# Altium schematic symbol library Induct-filter.SchLib: 46 symbols
Pins are listed as number, name and electrical type; pins without a type are passive.

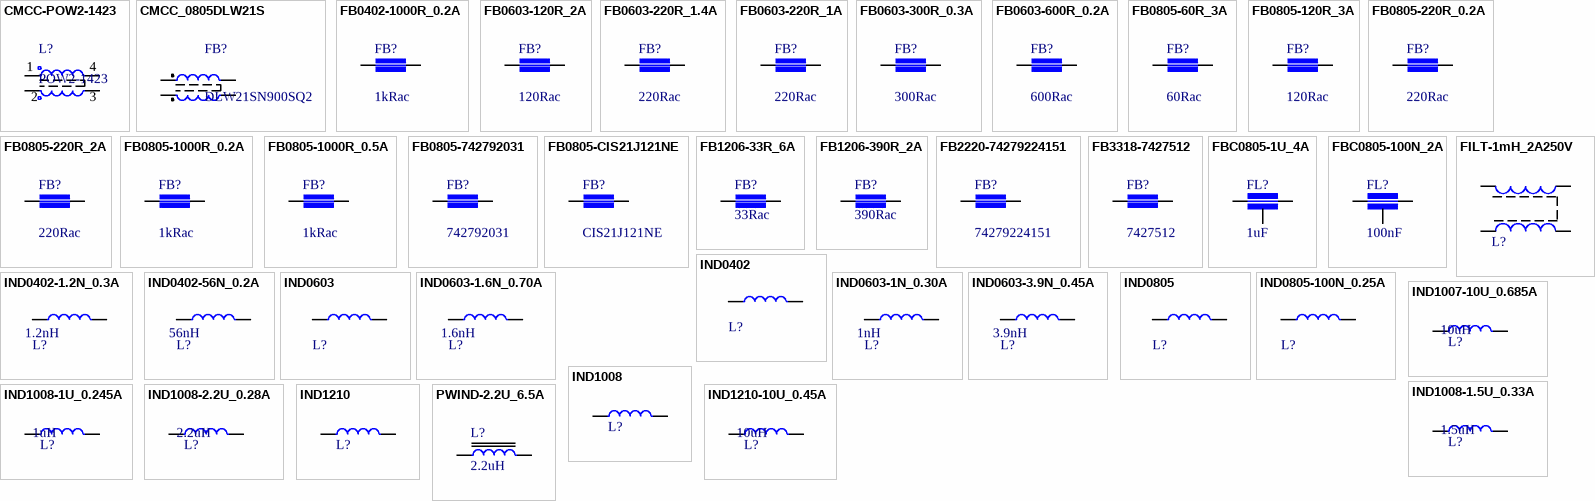
[diagram p0: symbols CMCC-POW2-1423 to PWIND-2.2U_6.5A]

## CMCC-POW2-1423
designator L?, comment POW2-1423
Dual-Winding Shielded Power Inductors D18L23,5H11,5; Manufacturer: Wurth Elektronik; Manufacturer No: 744851470; Tech: SMDR; Package: CMC WE-DCT; Supplier 1: Newark; Supplier Part Number 1: 46T8827; Supplier 2: Digi-Key; Supplier Part Number 2: 732-3022-6-ND
footprint INDPD_WE-DCT
pins: 1, 2, 3, 4

## CMCC_0805DLW21S
designator FB?, comment DLW21SN900SQ2
Chip Common Mode Choke 0805 330mA 90R; Manufacturer: Murata; Tech: SMDR; Manufacturer No: DLW21SN900SQ2; Package: Chip Coil 0805; Supplier 1: Digi-Key; Supplier Part Number 1: 490-5137-6-ND; Supplier 2: Mouser; Supplier Part Number 2: 81-DLW21SN900SQ2L; Supplier 3: Newark; Supplier Part Number 3: 74M0672
signal-integrity model Model Name (Model Description)
footprint CCMCC0805 (Chip Common Mode Choke Coil 0805)
pins: 1, 2, 3, 4

## FB0402-1000R_0.2A
designator FB?, comment 1kRac
Feritte filter smd 0402 0.2A 1.5Rdc; Manufacturer: Wuerth; Manufacturer No: 742792796; Tech: SMDR; Package: Filter Chip 0603; Supplier 1: Newark; Supplier Part Number 1: 78R5666; Supplier 2: Mouser; Supplier Part Number 2: 710-742792796; Supplier 3: Digi-Key; Supplier Part Number 3: 732-2132-1-ND
signal-integrity model Model Name (Model Description)
footprint FB0402N1R (Chip Ferrite Bead, 2-Leads, Body 1,6x0,8mm, IPC Medium Density)
footprint FB0402N1X (Chip Ferrite Bead, 2-Leads, Body 1,6x0,8mm, IPC Medium Density)
pins: 1, 2

## FB0603-120R_2A
designator FB?, comment 120Rac
Feritte filter smd 0603 2A 50mRdc; Manufacturer: Murata; Manufacturer No: BLM18PG121SN1; Tech: SMDR; Package: Filter Chip 0603; Supplier 1: Mouser; Supplier Part Number 1: 81-BLM18PG121SN1D; Supplier 2: Newark; Supplier Part Number 2: 73M9109; Supplier 3: Digi-Key; Supplier Part Number 3: 490-1037-1-ND
signal-integrity model Model Name (Model Description)
footprint FB0603N1X (Chip Ferrite Bead, 2-Leads, Body 1,6x0,8mm, IPC Medium Density)
footprint FB0603N1R (Chip Ferrite Bead, 2-Leads, Body 1,6x0,8mm, IPC Medium Density)
pins: 1, 2

## FB0603-220R_1.4A
designator FB?, comment 220Rac
Feritte filter smd 0603 1.4A 0.1Rdc; Manufacturer: Murata; Manufacturer No: BLM18PG221SN1; Tech: SMDR; Package: Filter Chip 0603; Supplier 1: Mouser; Supplier Part Number 1: 81-BLM18PG221SN1D; Supplier 2: Digi-Key; Supplier Part Number 2: 490-5221-1-ND; Supplier 3: Newark; Supplier Part Number 3: 73M9111
signal-integrity model Model Name (Model Description)
footprint FB0603N1X (Chip Ferrite Bead, 2-Leads, Body 1,6x0,8mm, IPC Medium Density)
footprint FB0603N1R (Chip Ferrite Bead, 2-Leads, Body 1,6x0,8mm, IPC Medium Density)
pins: 1, 2

## FB0603-220R_1A
designator FB?, comment 220Rac
Feritte filter smd 0603 1A 50mRdc; Manufacturer: Wuerth Elektronik; Manufacturer No: 742792604; Tech: SMDR; Package: Filter Chip 0603; Supplier 1: Newark; Supplier Part Number 1: 08P2428; Supplier 2: Digi-Key; Supplier Part Number 2: 732-1597-1-ND; Supplier 3: Mouser; Supplier Part Number 3: 710-742792604
signal-integrity model Model Name (Model Description)
footprint FB0603N1X (Chip Ferrite Bead, 2-Leads, Body 1,6x0,8mm, IPC Medium Density)
footprint FB0603N1R (Chip Ferrite Bead, 2-Leads, Body 1,6x0,8mm, IPC Medium Density)
pins: 1, 2

## FB0603-300R_0.3A
designator FB?, comment 300Rac
Feritte filter smd 0603 0.3A; Manufacturer: Wuerth; Manufacturer No: 742792640; Tech: SMDR; Package: Filter Chip 0603; Supplier 1: Digi-Key; Supplier Part Number 1: 732-1578-1-ND; Supplier 2: Newark; Supplier Part Number 2: 78R5659; Supplier 3: Mouser; Supplier Part Number 3: 710-742792640
signal-integrity model Model Name (Model Description)
footprint FB0603-1 (Chip Ferrite Bead, 2-Leads, Body 1,6x0,8mm, IPC Medium Density)
pins: 1, 2

## FB0603-600R_0.2A
designator FB?, comment 600Rac
Feritte filter smd 0603 0.2A 1Rdc; Manufacturer: Murata; Manufacturer No: BLM18HG601SN1; Tech: SMDR; Package: Filter Chip 0603; Supplier 1: Digi-Key; Supplier Part Number 1: 490-1033-6-ND; Supplier 2: Newark; Supplier Part Number 2: 73M9104; Supplier 3: Mouser; Supplier Part Number 3: 81-BLM11HA601SG
signal-integrity model Model Name (Model Description)
footprint FB0603N1X (Chip Ferrite Bead, 2-Leads, Body 1,6x0,8mm, IPC Medium Density)
footprint FB0603N1R (Chip Ferrite Bead, 2-Leads, Body 1,6x0,8mm, IPC Medium Density)
pins: 1, 2

## FB0805-60R_3A
designator FB?, comment 60Rac
Feritte filter smd 0805 3A 25mRdc; Manufacturer: Wuerth Elektronik; Manufacturer No: 742792063; Tech: SMDR; Package: Filter Chip 0805; Supplier 1: Newark; Supplier Part Number 1: 08P2377; Supplier 2: Digi-Key; Supplier Part Number 2: 732-1612-1-ND; Supplier 3: Mouser; Supplier Part Number 3: 710-742792063
signal-integrity model Model Name (Model Description)
footprint FB0805-1 (Chip Ferrite Bead, 2-Leads, Body 2,0x1,3mm, IPC Medium Density)
pins: 1, 2

## FB0805-120R_3A
designator FB?, comment 120Rac
Feritte filter smd 0805 3A 25mRdc; Manufacturer: Murata; Manufacturer No: BLM21PG121SN1D; Tech: SMDR; Package: Filter Chip 0805; Supplier 1: Mouser; Supplier Part Number 1: 81-BLM21PG121SN1D; Supplier 2: Digi-Key; Supplier Part Number 2: 490-5986-1-ND; Supplier 3: Newark; Supplier Part Number 3: 87X8589
signal-integrity model Model Name (Model Description)
footprint FB0805-1 (Chip Ferrite Bead, 2-Leads, Body 2,0x1,3mm, IPC Medium Density)
pins: 1, 2

## FB0805-220R_0.2A
designator FB?, comment 220Rac
Feritte filter smd 0805 0.2A 35mRdc; Manufacturer: Murata; Manufacturer No: BLM21BB221SN1; Tech: SMDR; Package: Filter Chip 0805; Supplier 1: Digi-Key; Supplier Part Number 1: 490-9708-1-ND; Supplier 2: Newark; Supplier Part Number 2: 73M9140; Supplier 3: Mouser; Supplier Part Number 3: 81-BLM21B221S
signal-integrity model Model Name (Model Description)
footprint FB0805N1X (Chip Ferrite Bead, 2-Leads, Body 2,0x1,3mm, IPC Medium Density)
footprint FB0805N1R (Chip Ferrite Bead, 2-Leads, Body 2,0x1,3mm, IPC Medium Density)
pins: 1, 2

## FB0805-220R_2A
designator FB?, comment 220Rac
Feritte filter smd 0805 2A 50mRdc; Manufacturer: Murata; Manufacturer No: BLM21PG221SN1; Tech: SMDR; Package: Filter Chip 0805; Supplier 1: Digi-Key; Supplier Part Number 1: 490-1054-1-ND; Supplier 2: Newark; Supplier Part Number 2: 73M9167; Supplier 3: Mouser; Supplier Part Number 3: 81-BLM21P221SG
signal-integrity model Model Name (Model Description)
footprint FB0805N1X (Chip Ferrite Bead, 2-Leads, Body 2,0x1,3mm, IPC Medium Density)
footprint FB0805N1R (Chip Ferrite Bead, 2-Leads, Body 2,0x1,3mm, IPC Medium Density)
pins: 1, 2

## FB0805-1000R_0.2A
designator FB?, comment 1kRac
Feritte filter smd 0805 0.2A; Manufacturer: Wurth Elektronik; Manufacturer No: 74279205; Tech: SMDR; Package: Filter Chip 0805; Supplier 1: Mouser; Supplier Part Number 1: 710-74279205; Supplier 2: Digi-Key; Supplier Part Number 2: 732-1606-1-ND; Supplier 3: Newark; Supplier Part Number 3: 08P2375
signal-integrity model Model Name (Model Description)
footprint FB0805N1X (Chip Ferrite Bead, 2-Leads, Body 2,0x1,3mm, IPC Medium Density)
footprint FB0805N1R (Chip Ferrite Bead, 2-Leads, Body 2,0x1,3mm, IPC Medium Density)
pins: 1, 2

## FB0805-1000R_0.5A
designator FB?, comment 1kRac
Feritte filter smd 0805 0.5A 1kRac; Manufacturer: Samsung; Manufacturer No: CIM21J102NE; Tech: SMDR; Package: Filter Chip 0805; Supplier 1: Digi-Key; Supplier Part Number 1: 1276-6331-1-ND
signal-integrity model Model Name (Model Description)
footprint FB0805N1X (Chip Ferrite Bead, 2-Leads, Body 2,0x1,3mm, IPC Medium Density)
footprint FB0805N1R (Chip Ferrite Bead, 2-Leads, Body 2,0x1,3mm, IPC Medium Density)
pins: 1, 2

## FB0805-742792031
designator FB?, comment 742792031
Feritte filter smd 0805 3A 50mRdc 300Rac; Manufacturer: Wurth; Tech: SMDR; Manufacturer No: 742792031; Package: Filter Chip 0805; Supplier 1: Mouser; Supplier Part Number 1: 710-742792031; Supplier 2: Digi-Key; Supplier Part Number 2: 732-4638-1-ND; Supplier 3: Newark; Supplier Part Number 3: 08P2366
signal-integrity model Model Name (Model Description)
footprint FB0805N1X (Chip Ferrite Bead, 2-Leads, Body 2,0x1,3mm, IPC Medium Density)
footprint FB0805N1R (Chip Ferrite Bead, 2-Leads, Body 2,0x1,3mm, IPC Medium Density)
pins: 1, 2

## FB0805-CIS21J121NE
designator FB?, comment CIS21J121NE
Feritte filter smd 0805 5A 20mRdc 120Rac; Manufacturer: Wurth; Tech: SMDR; Manufacturer No: CIS21J121NE; Package: Filter Chip 0805; Supplier 1: Digi-Key; Supplier Part Number 1: 1276-6369-1-ND
signal-integrity model Model Name (Model Description)
footprint FB0805N1X (Chip Ferrite Bead, 2-Leads, Body 2,0x1,3mm, IPC Medium Density)
footprint FB0805N1R (Chip Ferrite Bead, 2-Leads, Body 2,0x1,3mm, IPC Medium Density)
pins: 1, 2

## FB1206-33R_6A
designator FB?, comment 33Rac
Feritte filter smd 1206 6A 10mRdc; Manufacturer: Murata; Manufacturer No: BLM31PG330SN1; Tech: SMDR; Package: Filter Chip 1206; Supplier 1: Mouser; Supplier Part Number 1: 81-BLM31P330S; Supplier 2: Digi-Key; Supplier Part Number 2: 490-5989-6-ND
signal-integrity model Model Name (Model Description)
footprint FB1206N1X (Feritni filter smd 1206)
footprint FB1206N1R (Feritni filter smd 1206)
pins: 1, 2

## FB1206-390R_2A
designator FB?, comment 390Rac
Feritte filter smd 1206 2A 50mRdc; Manufacturer: Murata; Manufacturer No: BLM31PG391SN1; Tech: SMDR; Package: Filter Chip 1206; Supplier 1: Digi-Key; Supplier Part Number 1: 490-5229-6-ND; Supplier 2: Mouser; Supplier Part Number 2: 81-BLM31P391S; Supplier 3: Newark; Supplier Part Number 3: 67W0074
signal-integrity model Model Name (Model Description)
footprint FB1206N1X (Feritni filter smd 1206)
footprint FB1206N1R (Feritni filter smd 1206)
pins: 1, 2

## FB2220-74279224151
designator FB?, comment 74279224151
Feritte filter smd 2220 5A 10mRdc 150Rac; Manufacturer: Wurth; Tech: SMDR; Manufacturer No: 74279224151; Package: Filter Chip 2220; Supplier 1: Digi-Key; Supplier Part Number 1: 732-3423-1-ND; Supplier 2: Mouser; Supplier Part Number 2: 710-74279224151
signal-integrity model Model Name (Model Description)
footprint FB2220N1R (Chip Ferrite, 2-Leads, Body 5,59x5,08mm, IPC Medium Density)
footprint FB2220N1X (Chip Ferrite, 2-Leads, Body 5,59x5,08mm, IPC Medium Density)
pins: 1, 2

## FB3318-7427512
designator FB?, comment 7427512
Feritte filter smd 3318 5A 20mRdc 580Rac; Manufacturer: Wurth; Tech: SMDR; Manufacturer No: 7427512; Package: Filter Chip 3318; Supplier 1: Mouser; Supplier Part Number 1: 710-7427512; Supplier 2: Digi-Key; Supplier Part Number 2: 732-2381-1-ND
signal-integrity model Model Name (Model Description)
footprint FB3318N1R (Feritni filter smd 3318)
footprint FB3318N1X (Feritni filter smd 3318)
pins: 1, 2

## FBC0805-1U_4A
designator FL?, comment 1uF
Feritte filter smd 0805 4A 16V; Manufacturer: Murata; Manufacturer No: NFM21PC105B1C3; Tech: SMDR; Package: Filter Chip 0805; Supplier 1: Mouser; Supplier Part Number 1: 81-NFM21PC105B1C3D; Supplier 2: Digi-Key; Supplier Part Number 2: 490-3912-1-ND; Supplier 3: Newark; Supplier Part Number 3: 45P3789
signal-integrity model Model Name (Model Description)
footprint FV0805-1 (Chip filter 0805)
pins: 1, 2, 3 GND

## FBC0805-100N_2A
designator FL?, comment 100nF
Feritte filter smd 0805 2A; Manufacturer: Murata; Manufacturer No: NFM21PC104R1E3D; Tech: SMDR; Package: Filter Chip 0805
signal-integrity model Model Name (Model Description)
footprint FV0805-1 (Chip filter 0805)
pins: 1, 2, 3 GND

## FILT-1mH_2A250V
designator L?, comment 1mH  (value not drawn)
Common mode filter 2A 250V; Manufacturer: Epcos; Manufacturer No: B82721K2202N001; Tech: THDW; Package: CommChoke3; Supplier 1: Newark; Supplier Part Number 1: 12P7350; Supplier 2: Digi-Key; Supplier Part Number 2: 495-2733-ND; Supplier 3: Mouser; Supplier Part Number 3: 871-B82721K2202N1
signal-integrity model Model Name (Model Description)
footprint L-COMMCHOKE-3 (common mode choke)
pins: 1, 2, 3, 4

## IND0402
designator L?
Chip inductor 0402
signal-integrity model Model Name (Model Description)
footprint LC0402-1 (Chip inductor 0402)
footprint LC0402RF1 (Chip inductor 0402 RF pad)
pins: 1, 2

## IND0402-1.2N_0.3A
designator L?, comment 1.2nH
Chip inductor 0402 0.3A 90mR; Manufacturer: Murata; Manufacturer No: LQG15HS1N2S02; Tech: SMDR; Package: Chip Inductor 0402; Supplier 1: Digi-Key; Supplier Part Number 1: 490-2611-1-ND; Supplier 2: Mouser; Supplier Part Number 2: 81-LQG15HS1N2S02D
signal-integrity model Model Name (Model Description)
footprint LC0402N1X (Chip inductor 0402)
footprint LC0402N1R (Chip inductor 0402 ROUNDED PAD)
pins: 1, 2

## IND0402-56N_0.2A
designator L?, comment 56nH
Chip inductor 0402 0.2A 1.17R; Manufacturer: Murata; Manufacturer No: LQW15AN56NG00D; Tech: SMDR; Package: Chip Inductor 0402; Supplier 1: Digi-Key; Supplier Part Number 1: 490-6830-1-ND; Supplier 2: Mouser; Supplier Part Number 2: 81-LQW15AN56NG00D
signal-integrity model Model Name (Model Description)
footprint LC0402N1X (Chip inductor 0402)
footprint LC0402N1R (Chip inductor 0402 ROUNDED PAD)
pins: 1, 2

## IND0603
designator L?
Chip inductor 0603
signal-integrity model Model Name (Model Description)
footprint LC0603-1 (Chip  inductor  0603 (1608))
pins: 1, 2

## IND0603-1.6N_0.70A
designator L?, comment 1.6nH
Chip inductor 0603 0.70A 30mR; Manufacturer: Coilcraft; Manufacturer No: 0603CS-1N6XJEU; Tech: SMDR; Szpplier Unit Price 1: 0,79; Package: Chip Inductor 0603; Supplier 1: Coilcraft; Supplier Part Number 1: 0603CS-1N6XJEU
signal-integrity model Model Name (Model Description)
footprint LC0603N1X (Chip  inductor  0603)
footprint LC0603N1R (Chip  inductor  0603 ROUNDED PAD)
footprint LC0603RF1R (Chip  inductor  0603 RF pad ROUNDED PAD)
pins: 1, 2

## IND0603-1N_0.30A
designator L?, comment 1nH
Chip inductor 0603 0.30A 50mR; Manufacturer: Taiyo Yuden; Manufacturer No: HK16081N0S-T; Tech: SMDR; Package: Chip Inductor 0603; Supplier 1: Mouser; Supplier Part Number 1: 963-HK16081N0S-T; Supplier 2: Digi-Key; Supplier Part Number 2: 587-1533-1-ND; Supplier 3: Newark; Supplier Part Number 3: 58M7002
signal-integrity model Model Name (Model Description)
footprint LC0603N1X (Chip  inductor  0603)
footprint LC0603N1R (Chip  inductor  0603 ROUNDED PAD)
pins: 1, 2

## IND0603-3.9N_0.45A
designator L?, comment 3.9nH
Chip inductor 0603 0.45A 150mR; Manufacturer: Panasonic; Manufacturer No: ELJ-RE3N9JFA; Tech: SMDR; Package: Chip Inductor 0603; Supplier 1: Mouser; Supplier Part Number 1: 667-ELJ-RE3N9JFA; Supplier 2: Newark; Supplier Part Number 2: 96K9519; Supplier 3: Digi-Key; Supplier Part Number 3: PCD1968CT-ND
signal-integrity model Model Name (Model Description)
footprint LC0603N1X (Chip  inductor  0603)
footprint LC0603N1R (Chip  inductor  0603 ROUNDED PAD)
pins: 1, 2

## IND0805
designator L?
Chip inductor 0805
signal-integrity model Model Name (Model Description)
footprint LC0805-1 (Chip inductor  0805)
pins: 1, 2

## IND0805-100N_0.25A
designator L?, comment 100nH  (value not drawn)
RF inductor 0805 0.25A 260mR; Manufacturer: Murata; Manufacturer No: LQM21NNR10K10D; Tech: SMDR; Package: Chip Inductor 0805; Supplier 1: Newark; Supplier Part Number 1: 97K3782; Supplier 2: Digi-Key; Supplier Part Number 2: 490-1114-1-ND; Supplier 3: Mouser; Supplier Part Number 3: 81-LQG21NR10K10
signal-integrity model Model Name (Model Description)
footprint LC0805N1X (Chip inductor  0805)
footprint LC0805N1R (Chip inductor  0805 ROUNDED PAD)
pins: 1, 2

## IND1007-10U_0.685A
designator L?, comment 10uH
Chip inductor 1007 0.480A 468mR; Manufacturer: Taiyo Yuden; Manufacturer No: CBC2518T100M; Tech: SMDR; Package: Chip Inductor 1007; Supplier 1: Newark; Supplier Part Number 1: 18J0833; Supplier 2: Mouser; Supplier Part Number 2: 963-CBC2518T100M; Supplier 3: Digi-Key; Supplier Part Number 3: 587-1613-6-ND
signal-integrity model Model Name (Model Description)
footprint LC1007N1X (Chip inductor  1007)
footprint LC1007N1R (Chip inductor  1007)
pins: 1, 2

## IND1008
designator L?
Chip inductor 1008
signal-integrity model Model Name (Model Description)
footprint LC1008-2 (Chip inductor  1008 2.84x2.73mm)
pins: 1, 2

## IND1008-1.5U_0.33A
designator L?, comment 1.5uH
Chip inductor 1008 0.33A 2.3R; Manufacturer: Coilcraft; Manufacturer No: 1008CS-152XJLB; Tech: SMDR; Package: Chip Inductor 1008; Supplier 1: Coilcraft; Supplier Part Number 1: 1008CS-152XJLB; Supplier Unit Price 1: 0.85
signal-integrity model Model Name (Model Description)
footprint LC1008CS (Chip Inductor, 2-Leads, Body 2,92x2,79mm, IPC Medium Density)
pins: 1, 2

## IND1008-1U_0.245A
designator L?, comment 1uH
Chip inductor 1008 0.245A 1.1R; Manufacturer: TDK; Manufacturer No: NLV25T-1R0J-PF; Tech: SMDR; Package: Chip Inductor 1008
signal-integrity model Model Name (Model Description)
footprint LC1008N1X (Chip inductor  1008)
footprint LC1008N1R (Chip inductor 1008 ROUNDED PAD)
pins: 1, 2

## IND1008-2.2U_0.28A
designator L?, comment 2.2uH
Chip inductor 1008 0.28A 2.8R; Manufacturer: Coilcraft; Manufacturer No: 1008CS-222G_LB; Tech: SMDR; Package: Chip Inductor 1008; Supplier 1: Coilcraft; Supplier Part Number 1: 1008CS-222G_LB; Supplier Unit Price 1: 1,00
signal-integrity model Model Name (Model Description)
footprint LC1008CS (Chip Inductor, 2-Leads, Body 2,92x2,79mm, IPC Medium Density)
pins: 1, 2

## IND1210
designator L?
Chip inductor 1210
signal-integrity model Model Name (Model Description)
footprint LC1210N1X (Chip inductor 1210)
footprint LC1210N1R (Chip inductor 1210 ROUNDED PAD)
pins: 1, 2

## IND1210-10U_0.45A
designator L?, comment 10uH
Chip inductor 1210 0.45A 0.3R; Manufacturer: Murata, Farnell; Manufacturer No: LQH32CN100K33; Tech: SMDR; Package: Chip Inductor 1008; Supplier 1: Mouser; Supplier Part Number 1: 81-LQH32CN100K33L; Supplier 2: Newark; Supplier Part Number 2: 38K3981; Supplier 3: Digi-Key; Supplier Part Number 3: 490-6614-1-ND
signal-integrity model Model Name (Model Description)
footprint LC1210N1X (Chip inductor 1210)
footprint LC1210N1R (Chip inductor 1210 ROUNDED PAD)
pins: 1, 2

## PWIND-2.2U_6.5A
designator L?, comment 2.2uH
Power inductor 10x10mm 6.5A 10mR; Manufacturer: Epcos; Manufacturer No: B82464-G4222-M; Tech: SMDR; Package: Inductor Power 10x10mm; Supplier 1: Mouser; Supplier Part Number 1: 871-B82464G4222M; Supplier 2: Newark; Supplier Part Number 2: 38K0091
signal-integrity model Model Name (Model Description)
footprint L10x10x4.8 (Power inductor 10x10x4.8mm EPCOS)
pins: 1, 2

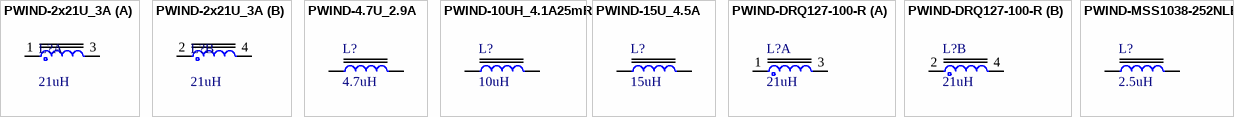
[diagram p1: symbols PWIND-2x21U_3A to PWIND-MSS1038-252NLB]

## PWIND-2x21U_3A
designator L?, comment 21uH
Power dual inductor 12.5x12.5x8mm 3A 34.2mR; Manufacturer: Coilcraft; Manufacturer No: DRQ127-100-R; Tech: SMDR; Package: Induct 12.5x12.5x8mm; Supplier 1: Newark; Supplier Part Number 1: 27K7224; Supplier 2: Mouser; Supplier Part Number 2: 704-DRQ127-100-R; Supplier 3: Digi-Key; Supplier Part Number 3: 513-1143-1-ND
footprint DRQ127 (Power inductor 12.5x12.5x8mm)
part A pins: 1, 3
part B pins: 2, 4

## PWIND-4.7U_2.9A
designator L?, comment 4.7uH
Power inductor 7.3x7.3x3.2mm 2.9A 33mR; Manufacturer: Wurth; Manufacturer No: 7447789004; Tech: SMDR; Package: Power Inductor 7.3x7.3; Supplier 1: Digi-Key; Supplier Part Number 1: 732-1175-1-ND; Supplier 2: Mouser; Supplier Part Number 2: 710-7447789004; Supplier 3: Newark; Supplier Part Number 3: 08P2880
footprint L7.3X7.3X3.2 (SMD inductor 7.3x7.3x3.2mm shielded)
pins: 1, 2

## PWIND-10UH_4.1A25mR
designator L?, comment 10uH
Power inductor 12.0x12.0x6.0mm WE-PD 4.1A 25mR; Manufacturer: Wuerth Elektronik; Manufacturer No: 74477110; Tech: SMDR; Package: Induct 12.0X12.0X6.0mm; Supplier 1: Mouser; Supplier Part Number 1: 710-74477110; Supplier 2: Newark; Supplier Part Number 2: 47W3822; Supplier 3: Digi-Key; Supplier Part Number 3: 732-1208-1-ND
signal-integrity model Model Name (Model Description)
footprint LP12.0X12.0X6 (Power inductor 12.0x12.0x6.0mm Wuerth WE-PD L)
pins: 1, 2

## PWIND-15U_4.5A
designator L?, comment 15uH
Power inductor 12.8x12.8x8mm 4.5A; Manufacturer: Epcos; Manufacturer No: B82477G4153M; Tech: SMDR; Package: L12.8x12.8; Supplier 1: Digi-Key; Supplier Part Number 1: 495-5684-1-ND; Supplier 2: Newark; Supplier Part Number 2: 96K7712; Supplier 3: Mouser; Supplier Part Number 3: 871-B82477G4153M
signal-integrity model Model Name (Model Description)
footprint L12.8X12.8X8 (Power inductor 12.8x12.8x8mm EPCOS)
pins: 1, 2

## PWIND-DRQ127-100-R
designator L?, comment 21uH
Power dual inductor 12.5x12.5x8mm 3Arms 34mR; Manufacturer: Coilcraft; Manufacturer No: DRQ127-100-R; Comment2: 3.02Arms  34.3mR; Tech: SMDR; Package: Induct 12.5x12.5x8mm; Supplier 1: Newark; Supplier Part Number 1: 27K7224; Supplier 2: Mouser; Supplier Part Number 2: 704-DRQ127-100-R; Supplier 3: Digi-Key; Supplier Part Number 3: 513-1143-1-ND
footprint DRQ127 (Power inductor 12.5x12.5x8mm)
part A pins: 1, 3
part B pins: 2, 4

## PWIND-MSS1038-252NLB
designator L?, comment 2.5uH
Power inductor 10.2x10mm 6.5A 10mR; Manufacturer: Coilcraft; Manufacturer No: MSS1038-252NLB; Tech: SMDR; Package: Inductor Power 10x10mm; Supplier 1: Coilcraft; Supplier Part Number 1: MSS1038-252NLB; Supplier Unit Price 1: 0.98
signal-integrity model Model Name (Model Description)
footprint LP10.2X10X3.8 (Power inductor 10.2x10x3.8mm)
pins: 1, 2